# Altium footprint library STDLIB.PcbLib: 25 footprints (part 1 of 2)
Each footprint in its own frame and in the unit in brackets; x right, y up, seen from the top. Pads: shape width x height; smd on the part's side, far side on the other; paste and mask are expansions set on the pad; w line width, h text height; cw(c..) or ccw(c..) is an arc to the next point about the centre after c.
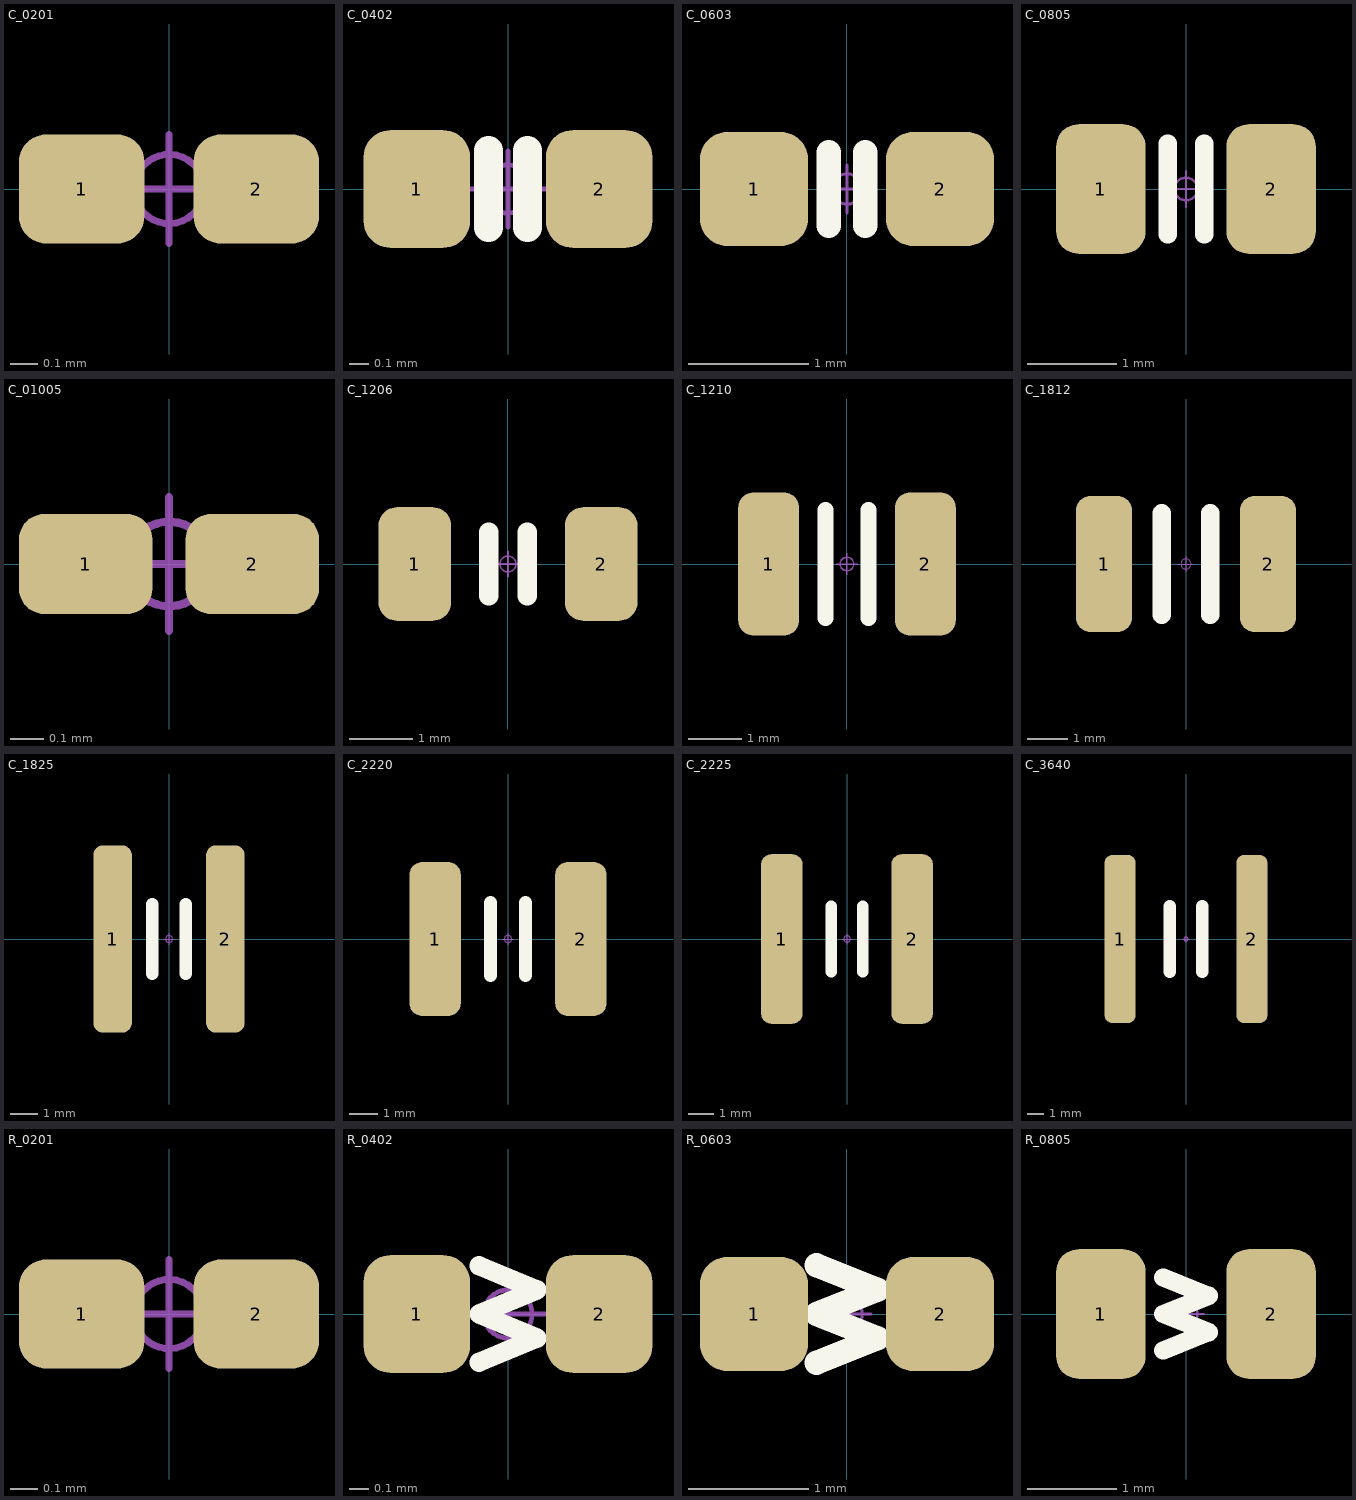
[diagram p0: the footprints below, top view; thin cyan lines are the x and y axes]

## C_0201 [mm]
pads (2):
  rrect50% 0.46x0.4 smd paste+0 mask+0: 1(-0.32,0) 2(0.32,0)
Mechanical 15:
  circle w0.025: c0,0 r0.127
  lines w0.025: -0.2,0 0.2,0 ; 0,-0.2 0,0.2
3D body "CAPC0603X03L.step": height 0.3, standoff 0, extent -0.3,-0.15 0.3,0.15

## C_0402 [mm]
pads (2):
  rrect50% 0.56x0.62 smd paste+0 mask+0: 1(-0.48,0) 2(0.48,0)
Top Overlay:
  lines w0.152: -0.102,-0.203 -0.102,0.203 ; 0.102,-0.203 0.102,0.203
Mechanical 15:
  circle w0.025: c0,0 r0.127
  lines w0.025: -0.2,0 0.2,0 ; 0,-0.2 0,0.2
3D body "CAPC1005X05L.step": height 0.5, standoff 0, extent -0.5,-0.25 0.5,0.25

## C_0603 [mm]
pads (2):
  rrect50% 0.9x0.95 smd paste+0 mask+0: 1(-0.775,0) 2(0.775,0)
Top Overlay:
  lines w0.203: -0.152,-0.305 -0.152,0.305 ; 0.152,-0.305 0.152,0.305
Mechanical 15:
  circle w0.025: c0,0 r0.127
  lines w0.025: -0.2,0 0.2,0 ; 0,-0.2 0,0.2
3D body "CAPC1608X08L.step": height 0.8, standoff 0, extent -0.8,-0.4 0.8,0.4

## C_0805 [mm]
pads (2):
  rrect50% 1x1.45 smd paste+0 mask+0: 1(-0.95,0) 2(0.95,0)
Top Overlay:
  lines w0.203: -0.203,-0.508 -0.203,0.508 ; 0.203,-0.508 0.203,0.508
Mechanical 15:
  circle w0.025: c0,0 r0.127
  lines w0.025: -0.2,0 0.2,0 ; 0,-0.2 0,0.2
3D body "CAPC2012X10L.step": height 1, standoff 0, extent -1,-0.625 1,0.625

## C_01005 [mm]
pads (2):
  rrect50% 0.4x0.3 smd paste+0 mask+0: 1(-0.25,0) 2(0.25,0)
Mechanical 15:
  circle w0.025: c0,0 r0.127
  lines w0.025: -0.2,0 0.2,0 ; 0,-0.2 0,0.2
3D body "C01005H02-2S.stp": height 0.2, standoff 0, extent -0.199,-0.1 0.199,0.1

## C_1206 [mm]
pads (2):
  rrect50% 1.15x1.8 smd paste+0 mask+0: 1(-1.475,0) 2(1.475,0)
Top Overlay:
  lines w0.305: -0.305,-0.508 -0.305,0.508 ; 0.305,-0.508 0.305,0.508
Mechanical 15:
  circle w0.025: c0,0 r0.127
  lines w0.025: -0.2,0 0.2,0 ; 0,-0.2 0,0.2
3D body "C1206.STEP": height 1, standoff 0, extent -1.6,-0.8 1.6,0.8

## C_1210 [mm]
pads (2):
  rrect50% 1.15x2.7 smd paste+0 mask+0: 1(-1.475,0) 2(1.475,0)
Top Overlay:
  lines w0.305: -0.406,-1.016 -0.406,1.016 ; 0.406,-1.016 0.406,1.016
Mechanical 15:
  circle w0.025: c0,0 r0.127
  lines w0.025: -0.2,0 0.2,0 ; 0,-0.2 0,0.2
3D body "C1210-2S.stp": height 0.92, standoff 0.02, extent -1.6,-1.26 1.6,1.26

## C_1812 [mm]
pads (2):
  rrect50% 1.4x3.4 smd paste+0 mask+0: 1(-2.05,0) 2(2.05,0)
Top Overlay:
  lines w0.457: -0.61,-1.27 -0.61,1.27 ; 0.61,-1.27 0.61,1.27
Mechanical 15:
  circle w0.025: c0,0 r0.127
  lines w0.025: -0.2,0 0.2,0 ; 0,-0.2 0,0.2
3D body "C1812H26-2S.stp": height 2.6, standoff 0, extent -2.25,-1.6 2.25,1.6

## C_1825 [mm]
pads (2):
  rrect50% 1.4x6.8 smd paste+0 mask+0: 1(-2.05,0) 2(2.05,0)
Top Overlay:
  lines w0.457: -0.61,-1.27 -0.61,1.27 ; 0.61,-1.27 0.61,1.27
Mechanical 15:
  circle w0.025: c0,0 r0.127
  lines w0.025: -0.2,0 0.2,0 ; 0,-0.2 0,0.2
3D body "C1825H11-2S.stp": height 1.1, standoff 0, extent -2.25,-3.2 2.25,3.2

## C_2220 [mm]
pads (2):
  rrect50% 1.8x5.4 smd paste+0 mask+0: 1(-2.55,0) 2(2.55,0)
Top Overlay:
  lines w0.457: -0.61,-1.27 -0.61,1.27 ; 0.61,-1.27 0.61,1.27
Mechanical 15:
  circle w0.025: c0,0 r0.127
  lines w0.025: -0.2,0 0.2,0 ; 0,-0.2 0,0.2
3D body "C2220H25-2S.stp": height 2.5, standoff 0, extent -2.85,-2.5 2.85,2.5

## C_2225 [mm]
pads (2):
  rrect50% 1.625x6.6 smd paste+0 mask+0: 1(-2.537,0) 2(2.537,0)
Top Overlay:
  lines w0.457: -0.61,-1.27 -0.61,1.27 ; 0.61,-1.27 0.61,1.27
Mechanical 15:
  circle w0.025: c0,0 r0.127
  lines w0.025: -0.2,0 0.2,0 ; 0,-0.2 0,0.2
3D body "C 2225.STEP": height 1.66, standoff 0.04, extent -2.8,-3.185 2.8,3.185

## C_3640 [mm]
pads (2):
  rrect50% 1.925x10.45 smd paste+0 mask+0: 1(-4.087,0) 2(4.087,0)
Top Overlay:
  lines w0.762: -1.016,-2.032 -1.016,2.032 ; 1.016,-2.032 1.016,2.032
Mechanical 15:
  circle w0.025: c0,0 r0.127
  lines w0.025: -0.2,0 0.2,0 ; 0,-0.2 0,0.2
3D body "C3838H43-2S.stp": height 4.32, standoff 0, extent -4.835,-4.835 4.835,4.835

## R_0201 [mm]
pads (2):
  rrect50% 0.46x0.4 smd paste+0 mask+0: 1(-0.32,0) 2(0.32,0)
Mechanical 15:
  circle w0.025: c0,0 r0.127
  lines w0.025: -0.2,0 0.2,0 ; 0,-0.2 0,0.2
3D body "R0201.STEP": height 0.23, standoff 0, extent -0.3,-0.15 0.3,0.15

## R_0402 [mm]
pads (2):
  rrect50% 0.56x0.62 smd paste+0 mask+0: 1(-0.48,0) 2(0.48,0)
Top Overlay:
  lines w0.102: -0.152,-0.254 0.152,-0.127 -0.152,0 0.152,0.127 -0.152,0.254
Mechanical 15:
  circle w0.025: c0,0 r0.127
  lines w0.025: -0.2,0 0.2,0 ; 0,-0.2 0,0.2
3D body "R0402.STEP": height 0.3, standoff 0, extent -0.5,-0.25 0.5,0.25

## R_0603 [mm]
pads (2):
  rrect50% 0.9x0.95 smd paste+0 mask+0: 1(-0.775,0) 2(0.775,0)
Top Overlay:
  lines w0.203: -0.254,-0.406 0.254,-0.203 -0.254,0 0.254,0.203 -0.254,0.406
Mechanical 15:
  circle w0.025: c0,0 r0.127
  lines w0.025: -0.2,0 0.2,0 ; 0,-0.2 0,0.2
3D body "R0603-2.stp": height 0.4, standoff 0, extent -0.8,-0.4 0.8,0.4

## R_0805 [mm]
pads (2):
  rrect50% 1x1.45 smd paste+0 mask+0: 1(-0.95,0) 2(0.95,0)
Top Overlay:
  lines w0.203: -0.254,-0.406 0.254,-0.203 -0.254,0 0.254,0.203 -0.254,0.406
Mechanical 15:
  circle w0.025: c0,0 r0.127
  lines w0.025: -0.2,0 0.2,0 ; 0,-0.2 0,0.2
3D body "R0805-2.stp": height 0.5, standoff 0, extent -1,-0.625 1,0.625